# EAGLE library part P2_3_2.54SF (library pins)
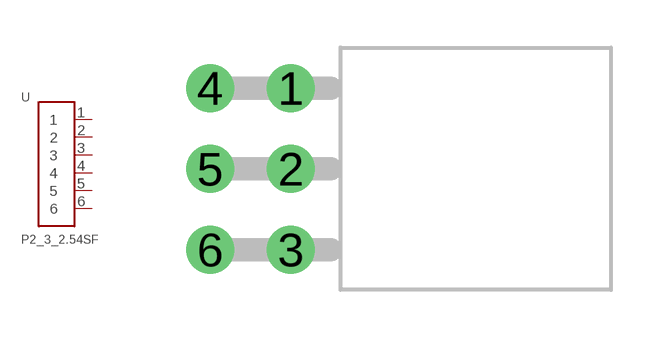
[diagram p4: symbol with the pads of P2_3_2.54SF; footprint P2_3_2.54SF]

Designator prefix -

## P2_3_2.54SF  [P2_3_2.54SF]
1  1
2  2
3  3
4  4
5  5
6  6

## Footprint P2_3_2.54SF (pad centres in mm)
drill 1: 1 2.54,2.54; 2 2.54,0; 3 2.54,-2.54; 4 0,2.54; 5 0,0; 6 0,-2.54